# Altium footprint library RFM95W-915S2.PcbLib: 1 footprints
Each footprint in its own frame and in the unit in brackets; x right, y up, seen from the top. Pads: shape width x height; smd on the part's side, far side on the other; paste and mask are expansions set on the pad; w line width, h text height; cw(c..) or ccw(c..) is an arc to the next point about the centre after c.
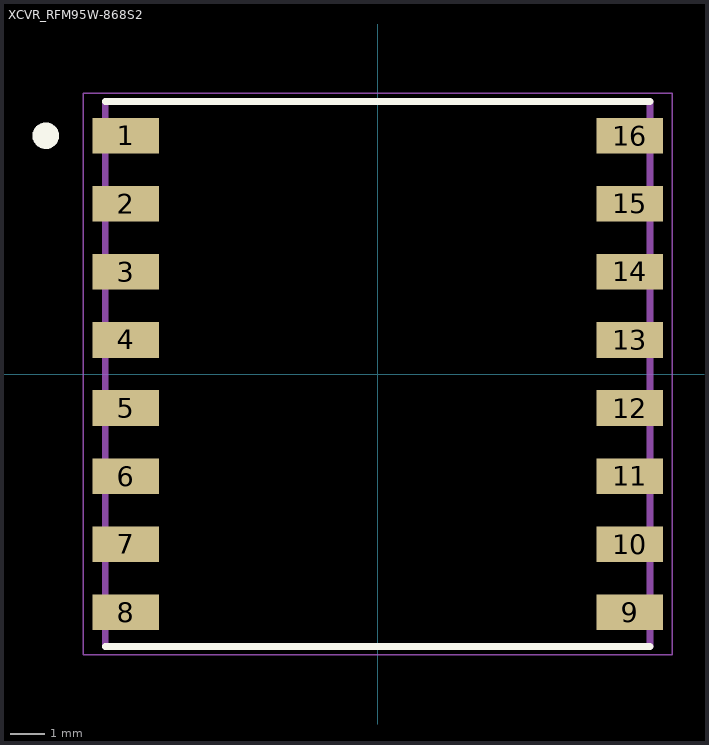
[diagram p0: the footprint, top view; thin cyan lines are the x and y axes]

## XCVR_RFM95W-868S2 [mm]
pads (16):
  rect 1.95x1.05 smd: 1(-7.4,7) 2(-7.4,5) 3(-7.4,3) 4(-7.4,1) 5(-7.4,-1) 6(-7.4,-3) 7(-7.4,-5) 8(-7.4,-7) 9(7.4,-7) 10(7.4,-5) 11(7.4,-3) 12(7.4,-1) 13(7.4,1) 14(7.4,3) 15(7.4,5) 16(7.4,7)
Top Overlay:
  circle w0.2: c-9.75,7 r0.292
  region: -9.5,6.808 -10.011,6.808 -10.011,7.2 -9.5,7.2
  lines w0.2: -8,-8 8,-8 ; -8,8 8,8
Mechanical 13:
  lines w0.2: -8,-8 -8,8 ; 8,-8 8,8
Mechanical 15:
  lines w0.05: -8.65,-8.25 8.65,-8.25 8.65,8.25 -8.65,8.25 -8.65,-8.25
3D body "step_temp.STEP": height 1.8, standoff 0, extent -8,-8 8,8